# Altium schematic symbol library CARD_BORDER.SchLib: 1 symbol
Pins are listed as number, name and electrical type; pins without a type are passive.

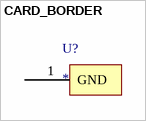
[diagram p0: symbol CARD_BORDER]

## CARD_BORDER
designator U?
Long edge copper rails 2mm 160mm Eurocard
pins: 1 GND